# Altium footprint library MF-DIODES.PcbLib: 2 footprints
Each footprint in its own frame and in the unit in brackets; x right, y up, seen from the top. Pads: shape width x height; smd on the part's side, far side on the other; paste and mask are expansions set on the pad; w line width, h text height; cw(c..) or ccw(c..) is an arc to the next point about the centre after c.
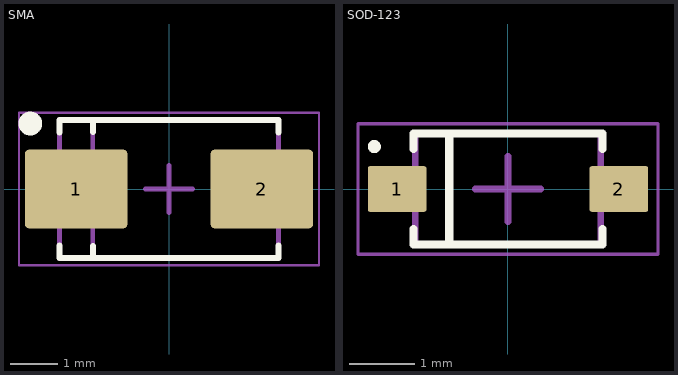
[diagram p0: the footprints below, top view; thin cyan lines are the x and y axes]

## SMA [mm] "SODFL, 2-Leads, Body 2.61x5.20mm, IPC Medium Density"
height 2.3
pads (2):
  rrect10% 2.15x1.65 smd mask+0.07: 1(-1.95,0) 2(1.95,0)
Top Overlay:
  circle w0.25: c-2.914,1.375 r0.125
  lines w0.127: -2.3,-1.188 -2.3,-1.45 2.3,-1.45 2.3,-1.188 ; -2.3,1.188 -2.3,1.45 2.3,1.45 2.3,1.188 ; -1.6,-1.45 -1.6,-1.2 ; -1.6,1.2 -1.6,1.45
Top Assembly:
  lines w0.1: -1.6,-1.46 -1.6,1.46 ; -2.3,-1.46 2.3,-1.46 2.3,1.46 -2.3,1.46 -2.3,-1.46
Top Courtyard:
  lines w0.05: -3.15,-1.6 3.15,-1.6 3.15,1.6 -3.15,1.6 -3.15,-1.6
  lines w0.1: -0.5,0 0.5,0 ; 0,-0.5 0,0.5
3D body "SMA.step": height 2.3, standoff 0, extent -2.598,-1.46 2.598,1.46

## SOD-123 [mm] "SODFL, 2-Leads, Body 1.55x3.70mm, IPC Medium Density"
height 1.35
pads (2):
  rrect10% 0.9x0.7 smd mask+0.07: 1(-1.7,0) 2(1.7,0)
Top Overlay:
  circle w0.1: c-2.05,0.65 r0.05
  lines w0.127: -1.45,-0.613 -1.45,-0.85 1.45,-0.85 1.45,-0.613 ; -1.45,0.613 -1.45,0.85 1.45,0.85 1.45,0.613 ; -0.9,-0.85 -0.9,0.85
Top Assembly:
  lines w0.1: -0.9,-0.85 -0.9,0.85 ; -1.425,-0.85 1.425,-0.85 1.425,0.85 -1.425,0.85 -1.425,-0.85
Top Courtyard:
  lines w0.05: -2.3,-1 2.3,-1 2.3,1 -2.3,1 -2.3,-1
  lines w0.1: -0.5,0 0.5,0 ; 0,-0.5 0,0.5
3D body "SOD-123.step": height 1.35, standoff 0, extent -1.85,-0.85 1.85,0.85